# Altium footprint library 7461097.PcbLib: 1 footprints
Each footprint in its own frame and in the unit in brackets; x right, y up, seen from the top. Pads: shape width x height; smd on the part's side, far side on the other; paste and mask are expansions set on the pad; w line width, h text height; cw(c..) or ccw(c..) is an arc to the next point about the centre after c.
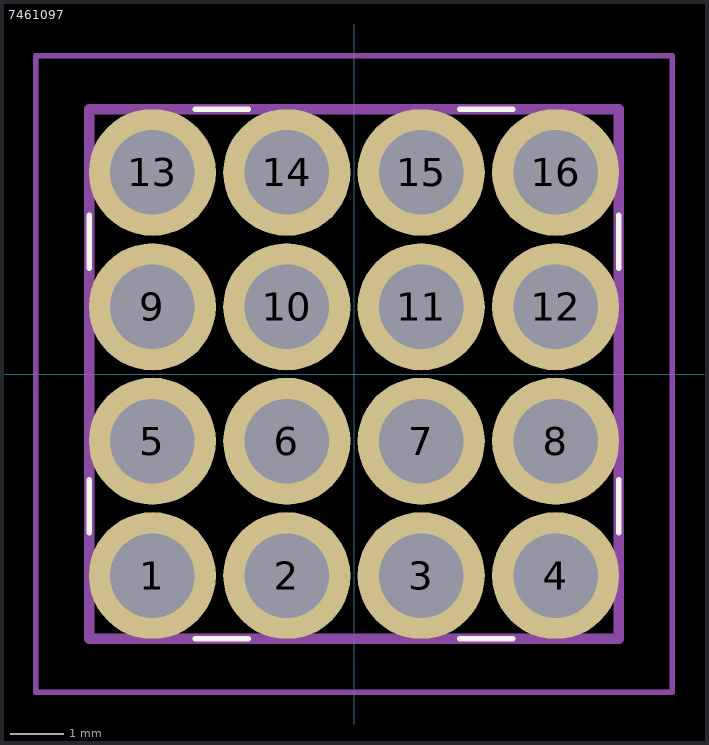
[diagram p0: the footprint, top view; thin cyan lines are the x and y axes]

## 7461097 [mm]
pads (16):
  round 2.4 hole 1.6: 1(-3.81,-3.81) 2(-1.27,-3.81) 3(1.27,-3.81) 4(3.81,-3.81) 5(-3.81,-1.27) 6(-1.27,-1.27) 7(1.27,-1.27) 8(3.81,-1.27) 9(-3.81,1.27) 10(-1.27,1.27) 11(1.27,1.27) 12(3.81,1.27) 13(-3.81,3.81) 14(-1.27,3.81) 15(1.27,3.81) 16(3.81,3.81)
Top Overlay:
  lines w0.1: -5,-3 -5,-2 ; -5,2 -5,3 ; -3,-5 -2,-5 ; -3,5 -2,5 ; 2,-5 3,-5 ; 2,5 3,5 ; 5,-3 5,-2 ; 5,2 5,3
Mechanical 15:
  lines w0.2: -5,-5 5,-5 5,5 -5,5 -5,-5
Mechanical 20:
  lines w0.1: -6.01,-6.01 6.01,-6.01 6.01,6.01 -6.01,6.01 -6.01,-6.01